# Altium schematic symbol library U96_SchLib.SchLib: 9 symbols
Pins are listed as number, name and electrical type; pins without a type are passive.

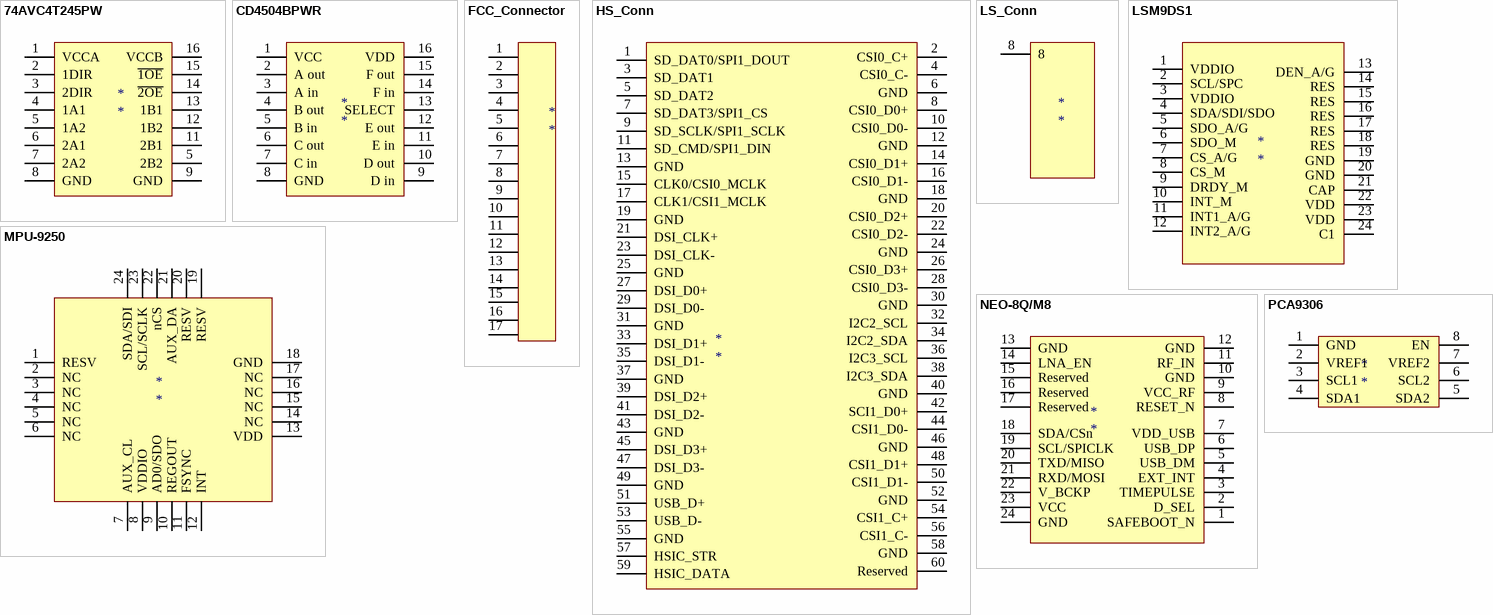
[diagram p0: symbols 74AVC4T245PW to PCA9306]

## 74AVC4T245PW
designator *
pins: 1 VCCA, 2 1DIR, 3 2DIR, 4 1A1, 5 1A2, 5 2B2, 6 2A1, 7 2A2, 8 GND, 9 GND, 11 2B1, 12 1B2, 13 1B1, 14 ~{2OE}, 15 ~{1OE}, 16 VCCB

## CD4504BPWR
designator *
footprint CD4504BPWR_16TSSOP
pins: 1 VCC, 2 A out, 3 A in, 4 B out, 5 B in, 6 C out, 7 C in, 8 GND, 9 D in, 10 D out, 11 E in, 12 E out, 13 SELECT, 14 F in, 15 F out, 16 VDD

## FCC_Connector
designator *
pins: 1, 2, 3, 4, 5, 6, 7, 8, 9, 10, 11, 12, 13, 14, 15, 16, 17

## HS_Conn
designator *
footprint 0.8MM-60PIN-HEADER
pins: 1 SD_DAT0/SPI1_DOUT, 2 CSI0_C+, 3 SD_DAT1, 4 CSI0_C-, 5 SD_DAT2, 6 GND, 7 SD_DAT3/SPI1_CS, 8 CSI0_D0+, 9 SD_SCLK/SPI1_SCLK, 10 CSI0_D0-, 11 SD_CMD/SPI1_DIN, 12 GND, 13 GND, 14 CSI0_D1+, 15 CLK0/CSI0_MCLK, 16 CSI0_D1-, 17 CLK1/CSI1_MCLK, 18 GND, 19 GND, 20 CSI0_D2+, 21 DSI_CLK+, 22 CSI0_D2-, 23 DSI_CLK-, 24 GND, 25 GND, 26 CSI0_D3+, 27 DSI_D0+, 28 CSI0_D3-, 29 DSI_D0-, 30 GND, 31 GND, 32 I2C2_SCL, 33 DSI_D1+, 34 I2C2_SDA, 35 DSI_D1-, 36 I2C3_SCL, 37 GND, 38 I2C3_SDA, 39 DSI_D2+, 40 GND, 41 DSI_D2-, 42 SCI1_D0+, 43 GND, 44 CSI1_D0-, 45 DSI_D3+, 46 GND, 47 DSI_D3-, 48 CSI1_D1+, 49 GND, 50 CSI1_D1-, 51 USB_D+, 52 GND, 53 USB_D-, 54 CSI1_C+, 55 GND, 56 CSI1_C-, 57 HSIC_STR, 58 GND, 59 HSIC_DATA, 60 Reserved

## LS_Conn
designator *
pins: 8

## LSM9DS1
designator *
footprint LSM9DS1
pins: 1 VDDIO, 2 SCL/SPC, 3 VDDIO, 4 SDA/SDI/SDO, 5 SDO_A/G, 6 SDO_M, 7 CS_A/G, 8 CS_M, 9 DRDY_M, 10 INT_M, 11 INT1_A/G, 12 INT2_A/G, 13 DEN_A/G, 14 RES, 15 RES, 16 RES, 17 RES, 18 RES, 19 GND, 20 GND, 21 CAP, 22 VDD, 23 VDD, 24 C1

## MPU-9250
designator *
footprint MPU-9250
pins: 1 RESV, 2 NC, 3 NC, 4 NC, 5 NC, 6 NC, 7 AUX_CL, 8 VDDIO, 9 AD0/SDO, 10 REGOUT, 11 FSYNC, 12 INT, 13 VDD, 14 NC, 15 NC, 16 NC, 17 NC, 18 GND, 19 RESV, 20 RESV, 21 AUX_DA, 22 nCS, 23 SCL/SCLK, 24 SDA/SDI

## NEO-8Q/M8
designator *
footprint NEO-8Q/M8
pins: 1 SAFEBOOT_N, 2 D_SEL, 3 TIMEPULSE, 4 EXT_INT, 5 USB_DM, 6 USB_DP, 7 VDD_USB, 8 RESET_N, 9 VCC_RF, 10 GND, 11 RF_IN, 12 GND, 13 GND, 14 LNA_EN, 15 Reserved, 16 Reserved, 17 Reserved, 18 SDA/CSn, 19 SCL/SPICLK, 20 TXD/MISO, 21 RXD/MOSI, 22 V_BCKP, 23 VCC, 24 GND

## PCA9306
designator *
pins: 1 GND, 2 VREF1, 3 SCL1, 4 SDA1, 5 SDA2, 6 SCL2, 7 VREF2, 8 EN